# Altium integrated library ICs.IntLib: 239 symbols (part 4 of 4)
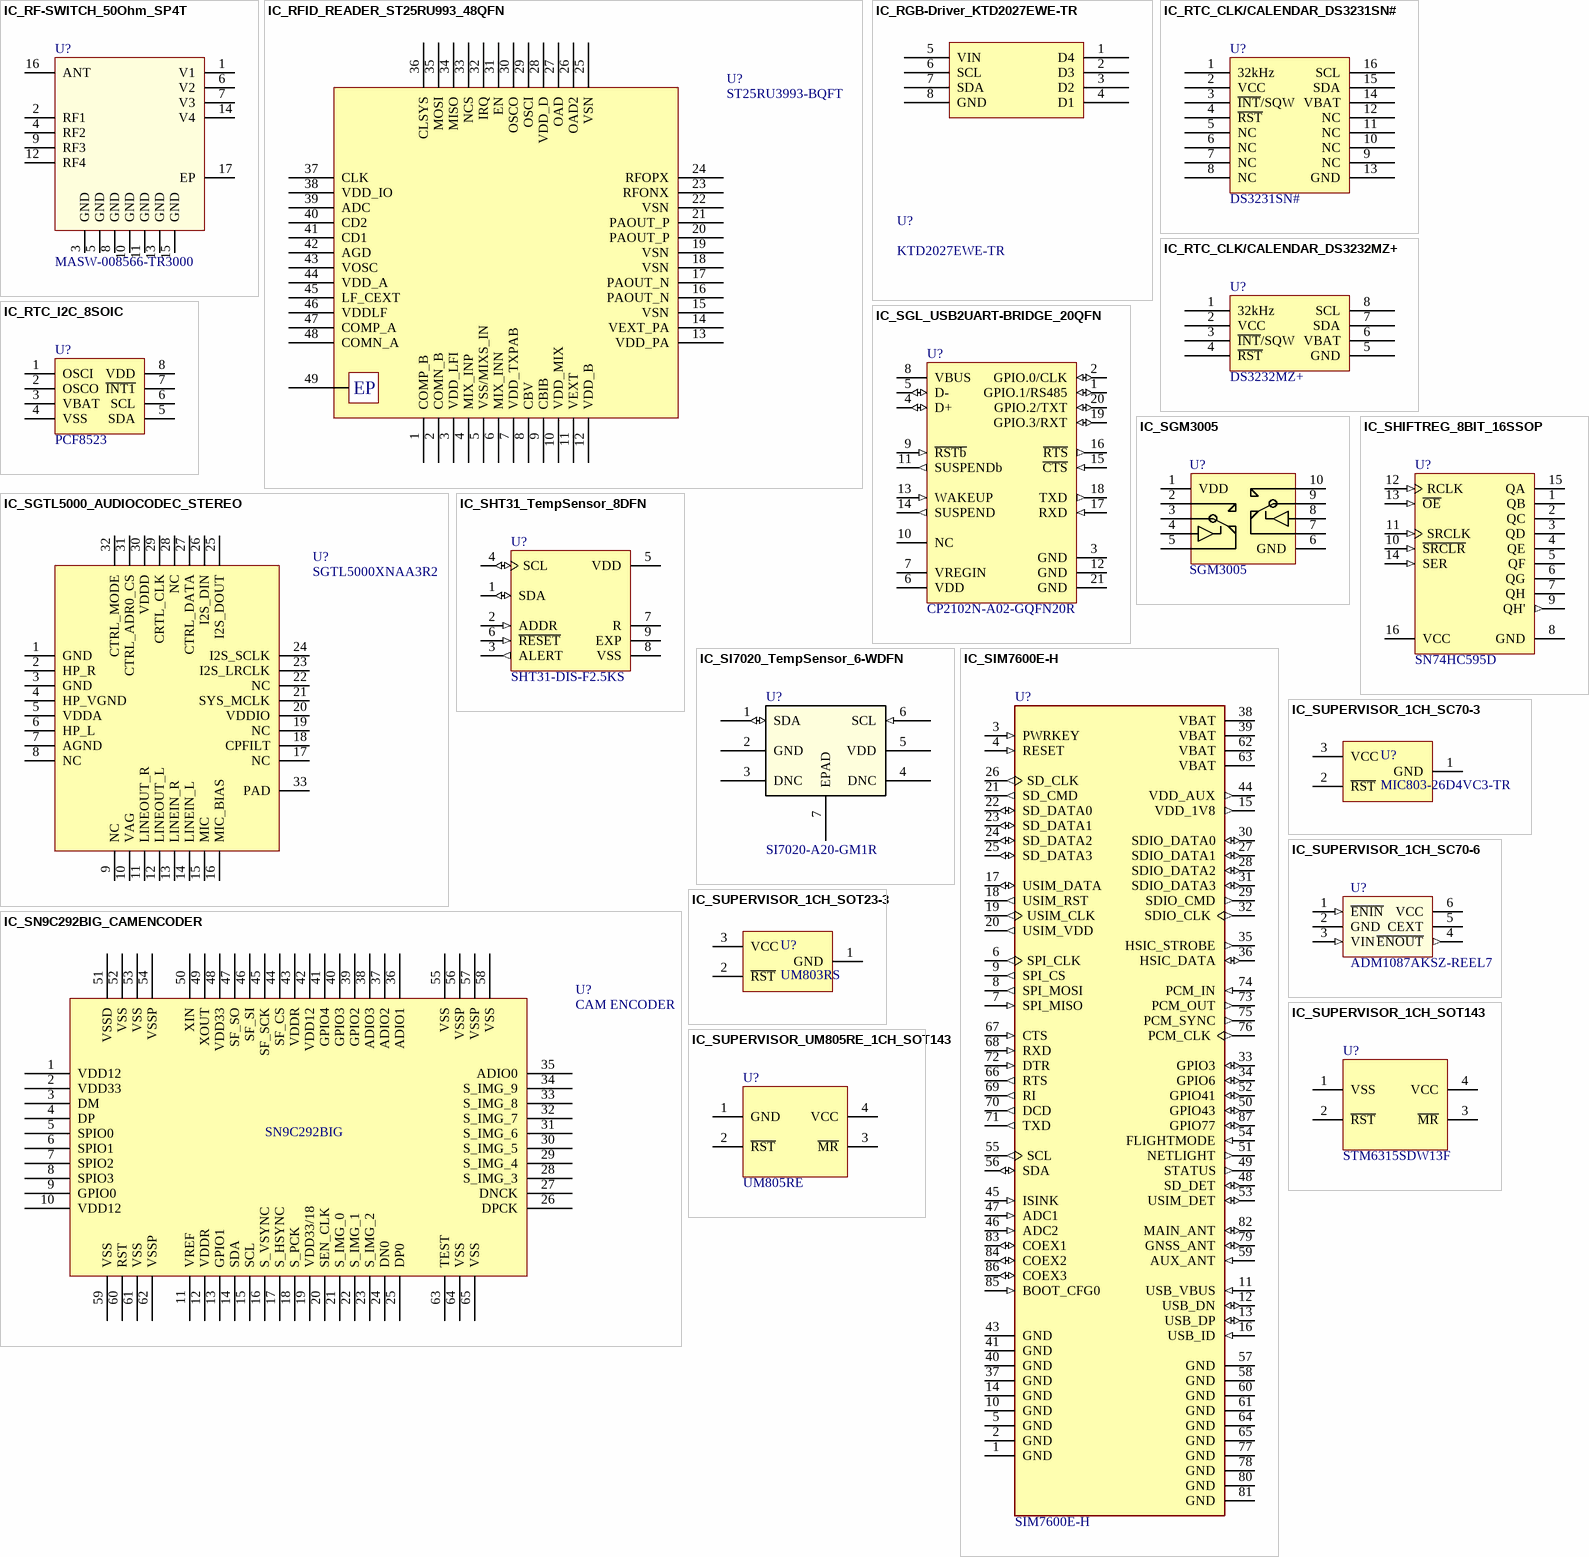
[diagram p12: symbols IC_RF-SWITCH_50Ohm_SP4T to IC_SUPERVISOR_UM805RE_1CH_SOT143]

## IC_RFID_READER_ST25RU993_48QFN
designator U?, comment ST25RU3993-BQFT
IC RFID READER 860-960MHZ 48QFN; Manufacturer: STMicroelectronics; Manufacturer Part Number: ST25RU3993-BQFT; Supplier 1: Digi-Key; Supplier Part Number 1: 497-17140-1-ND; Reel Stock: N/A; Last modified by: J.Jaramillo; Last modified date: 20240310; ComponentLink1Description: Dig-Key; ComponentLink1URL: https://www.digikey.com/en/products/detail/stmicroelectronics/ST25RU3993-BQFT/3821069
footprint VFQFN_48_7X7MM_EP (/20220120/J-E.Pachon)
pins: 1 COMP_B, 2 COMN_B, 3 VDD_LFI, 4 MIX_INP, 5 VSS/MIXS_IN, 6 MIX_INN, 7 VDD_TXPAB, 8 CBV, 9 CBIB, 10 VDD_MIX, 11 VEXT, 12 VDD_B, 13 VDD_PA, 14 VEXT_PA, 15 VSN, 16 PAOUT_N, 17 PAOUT_N, 18 VSN, 19 VSN, 20 PAOUT_P, 21 PAOUT_P, 22 VSN, 23 RFONX, 24 RFOPX, 25 VSN, 26 OAD2, 27 OAD, 28 VDD_D, 29 OSCI, 30 OSCO, 31 EN, 32 IRQ, 33 NCS, 34 MISO, 35 MOSI, 36 CLSYS, 37 CLK, 38 VDD_IO, 39 ADC, 40 CD2, 41 CD1, 42 AGD, 43 VOSC, 44 VDD_A, 45 LF_CEXT, 46 VDDLF, 47 COMP_A, 48 COMN_A, 49 EP

## IC_RGB-Driver_KTD2027EWE-TR
designator U?, comment KTD2027EWE-TR
LED Lighting Drivers 4-Channel RGBW Driver, I2C, 1.5x1.5mm TDFN; Manufacturer: Kinetic Technologies; Manufacturer Part Number: KTD2027EWE-TR; Supplier 1: Mouser; Supplier Part Number 1: 389-KTD2027EWETR; Reel Stock: N/A; Last modified by: J.Jaramillo; Last modified date: 20240310; ComponentLink1Description: Digi-Key; ComponentLink1URL: https://www.mouser.com/ProductDetail/Kinetic-Technologies/KTD2027EWE-TR?qs=lc2O%252BfHJPVba64R2ZzIo3g%3D%3D
footprint UTDFN-8_1.5X1.5MM (/20221215/J-E.Pachon)
pins: 1 D4, 2 D3, 3 D2, 4 D1, 5 VIN, 6 SCL, 7 SDA, 8 GND

## IC_RTC_CLK/CALENDAR_DS3231SN#
designator U?, comment DS3231SN#
IC RTC CLK/CALENDAR I2C 16-SOIC; Manufacturer: Analog Devices Inc./Maxim Integrated; Manufacturer Part Number: DS3231SN#; Supplier 1: Digi-Key; Supplier Part Number 1: DS3231SN#-ND; Reel Stock: N/A; Last modified by: J.Jaramillo; Last modified date: 20240310; ComponentLink1Description: Digi-Key; ComponentLink1URL: https://www.digikey.com/en/products/detail/analog-devices-inc-maxim-integrated/DS3231SN/1197576
footprint SOIC_16_7.9MM (/20220107/J-E.Pachon)
pins: 1 32kHz, 2 VCC, 3 ~{INT}/SQW, 4 ~{RST}, 5 NC, 6 NC, 7 NC, 8 NC, 9 NC, 10 NC, 11 NC, 12 NC, 13 GND, 14 VBAT, 15 SDA, 16 SCL

## IC_RTC_CLK/CALENDAR_DS3232MZ+
designator U?, comment DS3232MZ+
IC RTC CLK/CALENDAR I2C 8-SOIC; Manufacturer: Analog Devices Inc./Maxim Integrated; Manufacturer Part Number: DS3232MZ+; Supplier 1: Digi-Key; Supplier Part Number 1: DS3232MZ+-ND; Reel Stock: N/A; Last modified by: J.Jaramillo; Last modified date: 20240310; ComponentLink1Description: Digi-Key; ComponentLink1URL: https://www.digikey.com/en/products/detail/analog-devices-inc-maxim-integrated/DS3232MZ/3087653
footprint SOIC_8_3.9mm (/ 20190225 / C-A.Serna.A)
pins: 1 32kHz, 2 VCC, 3 ~{INT}/SQW, 4 ~{RST}, 5 GND, 6 VBAT, 7 SDA, 8 SCL

## IC_RTC_I2C_8SOIC
designator U?, comment PCF8523
IC RTC CLK/CALENDAR I2C 8-SOIC; Manufacturer: NXP USA Inc.; Manufacturer Part Number: PCF8523T/1,118; Last modified by: J.Jaramillo; Last modified date: 20240310; ComponentLink1Description: Digikey; ComponentLink1URL: https://www.digikey.com/product-detail/en/nxp-usa-inc/PCF8523T-1118/568-5306-1-ND/2530784; Reel Stock: N/A; Supplier 1: Digi-Key; Supplier Part Number 1: 568-5306-1-ND
footprint SOIC_8_3.9mm (/ 20190225 / C-A.Serna.A)
pins: 1 OSCI (power), 2 OSCO (power), 3 VBAT (power), 4 VSS (power), 5 SDA (power), 6 SCL (power), 7 ~{INT1} (power), 8 VDD (power)

## IC_SGL_USB2UART-BRIDGE_20QFN
designator U?, comment CP2102N-A02-GQFN20R
IC USB TO UART BRIDGE QFN20; Manufacturer: Silicon Labs; Manufacturer Part Number: CP2102N-A02-GQFN20R; Supplier 1: Digi-Key; Supplier Part Number 1: 336-5886-1-ND; Reel Stock: N/A; Last modified by: J.Jaramillo; Last modified date: 20240310; ComponentLink1Description: Digi-Key; ComponentLink1URL: https://www.digikey.com/en/products/detail/silicon-labs/CP2102N-A02-GQFN20R/9863478?s=N4IgTCBcDaIMxwGwFoCsAOdKCMyByAIiALoC%2BQA
footprint WFQFN_20_EP_3X3MM (QFN_20/ 20210809/ C-D Viveros)
pins: 1 GPIO.1/RS485 (io), 2 GPIO.0/CLK (io), 3 GND (power) "Ground", 4 D+ (io) "USB Data Positive", 5 D- (io) "USB Data Negative", 6 VDD (power) "Supply Power Input/5V Regulator Output", 7 VREGIN (power) "5V Regulator Input", 8 VBUS (power) "Digital Input. VBUS Sense Input. This pin should be connected to the VBUS signal of a USBnetwork. A 5 V signal on this pin indicates a USB network connection", 9 ~{RSTb} (in) "Active-low Reset", 10 NC "No Connect (leave this pin floating)", 11 SUSPENDb (out) "Digital Output. This pin is driven low when the device enters the USB suspend state.", 12 GND (power) "Ground", 13 WAKEUP (in) "Digital Input. Remote USB wakeup interrupt input.", 14 SUSPEND (out) "Digital Output. This pin is driven high when the device enters the USB suspend state", 15 ~{CTS} (in) "Digital Input. Clear To Send control input (active low).", 16 ~{RTS} (out) "Digital Output. Ready To Send control output (active low).", 17 RXD (in) "Digital Input. Asynchronous data input (UART Receive).", 18 TXD (out) "Digital Output. Asynchronous data output (UART Transmit)", 19 GPIO.3/RXT (io), 20 GPIO.2/TXT (io), 21 GND (power) "Ground"

## IC_SGM3005
designator U?, comment SGM3005
Analog switch SPDT; Manufacturer: SGMICRO; Manufacturer Part Number: SGM3005; Supplier 1: Poshton; Supplier Part Number 1: SGM3005; Reel Stock: N/A; Last modified by: J.Jaramillo; Last modified date: 20240310; ComponentLink1Description: lcsc
footprint MSOP-10_3.0MM (20210809/V-A.Patino)
pins: 1 VDD, 2 NO1, 3 COM1, 4 IN1, 5 NC1, 6 GND, 7 NC2, 8 IN2, 9 COM2, 10 NO2

## IC_SGTL5000_AUDIOCODEC_STEREO
designator U?, comment SGTL5000XNAA3R2
IC AUDIO CODEC STEREO 32-QFN; Manufacturer: NXP USA Inc.; Manufacturer Part Number: SGTL5000XNAA3R2; Supplier 1: Digi-Key; Supplier Part Number 1: SGTL5000XNAA3R2CT-ND; Reel Stock: N/A; Last modified by: J.Jaramillo; Last modified date: 20240310; ComponentLink1Description: Digi-Key; ComponentLink1URL: https://www.digikey.com/products/en?keywords=SGTL5000XNAA3R2CT-ND
footprint QFN-32_EP_5X5MM (32-VFQFN Exposed Pad/20200714/N-A.Potosi)
pins: 1 GND, 2 HP_R, 3 GND, 4 HP_VGND, 5 VDDA, 6 HP_L, 7 AGND, 8 NC, 9 NC, 10 VAG, 11 LINEOUT_R, 12 LINEOUT_L, 13 LINEIN_R, 14 LINEIN_L, 15 MIC, 16 MIC_BIAS, 17 NC, 18 CPFILT, 19 NC, 20 VDDIO, 21 SYS_MCLK, 22 NC, 23 I2S_LRCLK, 24 I2S_SCLK, 25 I2S_DOUT, 26 I2S_DIN, 27 CTRL_DATA, 28 NC, 29 CRTL_CLK, 30 VDDD, 31 CTRL_ADR0_CS, 32 CTRL_MODE, 33 PAD

## IC_SHIFTREG_8BIT_16SSOP
designator U?, comment SN74HC595D
IC SHIFT REGISTER 8BIT 16-SSOP; Manufacturer: Texas Instruments; Manufacturer Part Number: SN74HC595DBR; Supplier 1: Digi-Key; Supplier Part Number 1: 296-38797-1-ND; Reel Stock: N/A; Last modified by: J.Jaramillo; Last modified date: 20240310; ComponentLink1Description: Digi-Key; ComponentLink1URL: https://www.digikey.com/en/products/detail/texas-instruments/SN74HC595DBR/1571260
footprint SSOP_16_6.2x5.3mm_N (/ 20190911/C-D Viveros)
pins: 1 QB (hiz) "QB Output", 2 QC (hiz) "QC Output", 3 QD (hiz) "QD Output", 4 QE (hiz) "QE Output", 5 QF (hiz) "QF Output", 6 QG (hiz) "QG Output", 7 QH (hiz) "QH Output", 8 GND (power) "Ground Pin", 9 QH' (out) "QH' Output", 10 ~{SRCLR} (in) "S\R\C\L\R\ Input", 11 SRCLK (in) "SRCLK Input", 12 RCLK (in) "RCLK Input", 13 ~{OE} (in) "Output Enable Pin", 14 SER (in) "SER Input", 15 QA (hiz) "QA Output", 16 VCC (power) "Power Pin"

## IC_SHT31_TempSensor_8DFN
designator U?, comment SHT31-DIS-F2.5KS
SENSOR HUMID/TEMP 5V I2C 2% SMD; Manufacturer: Sensirion AG; Manufacturer Part Number: SHT31-DIS-F2.5KS; Supplier 1: Digi-Key; Supplier Part Number 1: 1649-1066-1-ND; Reel Stock: N/A; Last modified by: J.Jaramillo; Last modified date: 20240310; ComponentLink1Description: Digikey; ComponentLink1URL: https://www.digikey.com/en/products/detail/sensirion-ag/SHT31-DIS-F2-5KS/6212134
footprint DFN_8 _2.5X2.5MM (8VFDFN/20201009/N-A.Potosi)
pins: 1 SDA (io), 2 ADDR (in), 3 ALERT (out), 4 SCL (io), 5 VDD (power), 6 ~{RESET} (in), 7 R, 8 VSS (power), 9 EXP

## IC_SI7020_TempSensor_6-WDFN
designator U?, comment SI7020-A20-GM1R
SENS HUMI/TEMP 3.6V I2C 4% 6DFN; Manufacturer: Silicon Labs; Manufacturer Part Number: SI7020-A20-GM1R; Supplier 1: Digi-Key; Supplier Part Number 1: 336-3596-1-ND; Reel Stock: N/A; Last modified by: J.Jaramillo; Last modified date: 20240310; ComponentLink1Description: Digi-Key; ComponentLink1URL: https://www.digikey.com/en/products/detail/silicon-labs/SI7020-A20-GM1R/5048927?s=N4IgTCBcDaIMxwGwFo4FYCcKCMyByAIiALoC%2BQA
footprint DFN6_3x3MM (/20221116/J-A.Sepulveda)
pins: 1 SDA (io), 2 GND (power), 3 DNC, 4 DNC, 5 VDD (power), 6 SCL (in), 7 EPAD

## IC_SIM7600E-H
designator U?, comment SIM7600E-H
LTE CAT4; Manufacturer: SIMCom Wireless Solutions Limited; Manufacturer Part Number: SIM7600E-H; Supplier 1: Digi-Key; Supplier Part Number 1: 3781-SIM7600E-H-ND; Reel Stock: N/A; Last modified by: J.Jaramillo; Last modified date: 20240310; ComponentLink1Description: Digi-Key; ComponentLink1URL: https://www.digikey.com/en/products/detail/simcom-wireless-solutions-limited/SIM7600E-H/15841468; ComponentLink2Description: Datasheet; ComponentLink2URL: https://drive.google.com/drive/folders/1fQhPtR3fgm2465Pxh8OV7G2RsV8r5jyW
footprint 87-SMD_30x30MM (20220111 / E.Naranjo)
footprint 87-SMD_30x30MM_SIM7600E-H (20220318 / J-E.Pachon)
pins: 1 GND (power), 2 GND (power), 3 PWRKEY (in), 4 RESET (in), 5 GND (power), 6 SPI_CLK (out), 7 SPI_MISO (in), 8 SPI_MOSI (out), 9 SPI_CS (out), 10 GND (power), 11 USB_VBUS (in), 12 USB_DN (io), 13 USB_DP (io), 14 GND (power), 15 VDD_1V8 (out), 16 USB_ID (in), 17 USIM_DATA (io), 18 USIM_RST (out), 19 USIM_CLK (out), 20 USIM_VDD (out), 21 SD_CMD (out), 22 SD_DATA0 (io), 23 SD_DATA1 (io), 24 SD_DATA2 (io), 25 SD_DATA3 (io), 26 SD_CLK (out), 27 SDIO_DATA1 (io), 28 SDIO_DATA2 (io), 29 SDIO_CMD (out), 30 SDIO_DATA0 (io), 31 SDIO_DATA3 (io), 32 SDIO_CLK (out), 33 GPIO3 (io), 34 GPIO6 (io), 35 HSIC_STROBE (out), 36 HSIC_DATA (io), 37 GND (power), 38 VBAT (power), 39 VBAT (power), 40 GND (power), 41 GND (power), 43 GND (power), 44 VDD_AUX (out), 45 ISINK (in), 46 ADC2 (in), 47 ADC1 (in), 48 SD_DET (io), 49 STATUS (out), 50 GPIO43 (io), 51 NETLIGHT (out), 52 GPIO41 (io), 53 USIM_DET (io), 54 FLIGHTMODE (in), 55 SCL (out), 56 SDA (io), 57 GND (power), 58 GND (power), 59 AUX_ANT (in), 60 GND (power), 61 GND (power), 62 VBAT (power), 63 VBAT (power), 64 GND (power), 65 GND (power), 66 RTS (out), 67 CTS (in), 68 RXD (in), 69 RI (out), 70 DCD (out), 71 TXD (out), 72 DTR (in), 73 PCM_OUT (out), 74 PCM_IN (in), 75 PCM_SYNC (out), 76 PCM_CLK (out), 77 GND (power), 78 GND (power), 79 GNSS_ANT (io), 80 GND (power), 81 GND (power), 82 MAIN_ANT (io), 83 COEX1 (io), 84 COEX2 (io), 85 BOOT_CFG0 (in), 86 COEX3 (io), 87 GPIO77 (io)

## IC_SN9C292BIG_CAMENCODER
designator U?, comment CAM ENCODER
USB2.0 H.264 Video Encoding Camera Controller; Manufacturer: SONIX; Manufacturer Part Number: SN9C292BIG; Supplier 1: Poshton; Supplier Part Number 1: SN9C292BIG; Reel Stock: N/A; Last modified by: J.Jaramillo; Last modified date: 20240310; ComponentLink1Description: jlcpcb; ComponentLink1URL: https://jlcpcb.com/partdetail/Sonix-SN9C292BIG/C5247174
footprint LGA65_7X5MM (/20210809/N-A.Potosi)
pins: 1 VDD12, 2 VDD33, 3 DM, 4 DP, 5 SPIO0, 6 SPIO1, 7 SPIO2, 8 SPIO3, 9 GPIO0, 10 VDD12, 11 VREF, 12 VDDR, 13 GPIO1, 14 SDA, 15 SCL, 16 S_VSYNC, 17 S_HSYNC, 18 S_PCK, 19 VDD33/18, 20 SEN_CLK, 21 S_IMG_0, 22 S_IMG_1, 23 S_IMG_2, 24 DN0, 25 DP0, 26 DPCK, 27 DNCK, 28 S_IMG_3, 29 S_IMG_4, 30 S_IMG_5, 31 S_IMG_6, 32 S_IMG_7, 33 S_IMG_8, 34 S_IMG_9, 35 ADIO0, 36 ADIO1, 37 ADIO2, 38 ADIO3, 39 GPIO2, 40 GPIO3, 41 GPIO4, 42 VDD12, 43 VDDR, 44 SF_CS, 45 SF_SCK, 46 SF_SI, 47 SF_SO, 48 VDD33, 49 XOUT, 50 XIN, 51 VSSD, 52 VSS, 53 VSS, 54 VSSP, 55 VSS, 56 VSSP, 57 VSSP, 58 VSS, 59 VSS, 60 RST, 61 VSS, 62 VSSP, 63 TEST, 64 VSS, 65 VSS

## IC_SUPERVISOR_1CH_SC70-3
designator U?, comment MIC803-26D4VC3-TR
IC SUPERVISOR 1 CHANNEL SC70-3; Manufacturer: Microchip Technology; Manufacturer Part Number: MIC803-26D4VC3-TR; Supplier 1: Digi-Key; Supplier Part Number 1: 576-3799-1-ND; Reel Stock: N/A; Last modified by: J.Jaramillo; Last modified date: 20240310; ComponentLink1Description: Digi-Key; ComponentLink1URL: https://www.digikey.com/en/products/detail/microchip-technology/MIC803-26D4VC3-TR/2566976?s=N4IgTCBcDaILIEkDCAOADAZgLRgGwBEAWANSQxAF0BfIA
footprint SC_70_3 (SOT-323 / 20230810/ N-A.Potosi)
pins: 1 GND, 2 ~{RST}, 3 VCC

## IC_SUPERVISOR_1CH_SC70-6
designator U?, comment ADM1087AKSZ-REEL7
IC SUPERVISOR 1 CHANNEL SC70-6; Manufacturer: Analog Devices Inc.; Reel Stock: N/A; Last modified by: J.Jaramillo; Last modified date: 20240310; ComponentLink1Description: Digi-Key; ComponentLink1URL: https://www.digikey.com/en/products/detail/analog-devices-inc/ADM1087AKSZ-REEL7/994971; Supplier 1: Digi-Key; Manufacturer Part Number: ADM1087AKSZ-REEL7; Supplier Part Number 1: 505-ADM1087AKSZ-REEL7CT-ND
footprint SOT_ 363 (TSSOP-6, SC-88, SOT-363 / 20190225 / C-A.Serna.A)
pins: 1 ~{ENIN} (in), 2 GND (power), 3 VIN (in), 4 ~{ENOUT} (out), 5 CEXT (power), 6 VCC (power)

## IC_SUPERVISOR_1CH_SOT23-3
designator U?, comment UM803RS
3-Pin uP Reset Circuits with Ope; Manufacturer: Union Semiconductor International Limited; Manufacturer Part Number: UM803RS; Supplier 1: Digi-Key; Supplier Part Number 1: 3351-UM803RSTR-ND; Reel Stock: N/A; Last modified by: J.Jaramillo; Last modified date: 20240310; ComponentLink1Description: Digi-Key; ComponentLink1URL: https://www.digikey.com/en/products/detail/union-semiconductor-international-limited/UM803RS/16731106
footprint SOT_23_3 (/20200728/M-C.CalderonC)
pins: 1 GND, 2 ~{RST}, 3 VCC

## IC_SUPERVISOR_1CH_SOT143
designator U?, comment STM6315SDW13F
IC SUPERVISOR 1 CHANNEL SOT143-4; Manufacturer: STMicroelectronics; Manufacturer Part Number: STM6315SDW13F; Supplier 1: Digi-Key; Supplier Part Number 1: 497-4975-1-ND; Reel Stock: N/A; Last modified by: J.Jaramillo; Last modified date: 20240310; ComponentLink1Description: Digi-Key; ComponentLink1URL: https://www.digikey.com/en/products/detail/stmicroelectronics/STM6315SDW13F/1003395?s=N4IgTCBcDaICwE4DsBaRSCsKCMKByAIiALoC%2BQA
footprint SOT_143-4 (TO-253-4, TO-253AA/ 20220517/ N-A.Potosi)
pins: 1 VSS, 2 ~{RST}, 3 ~{MR}, 4 VCC

## IC_SUPERVISOR_UM805RE_1CH_SOT143
designator U?, comment UM805RE
Open Drain Output uP Reset with; Manufacturer: Union Semiconductor; Manufacturer Part Number: UM805RE; Supplier 1: LCSC; Supplier Part Number 1: C620010; Reel Stock: N/A; Last modified by: J.Jaramillo; Last modified date: 20240310; ComponentLink1Description: LCSC; ComponentLink1URL: https://www.lcsc.com/product-detail/Monitors-Reset-Circuits_Union-Semiconductor-UM805RE_C620010.html?utm_source=octopart&utm_medium=cpc&utm_campaign=UM805RE
footprint SOT_143-4 (TO-253-4, TO-253AA/ 20220517/ N-A.Potosi)
pins: 1 GND, 2 ~{RST}, 3 ~{MR}, 4 VCC

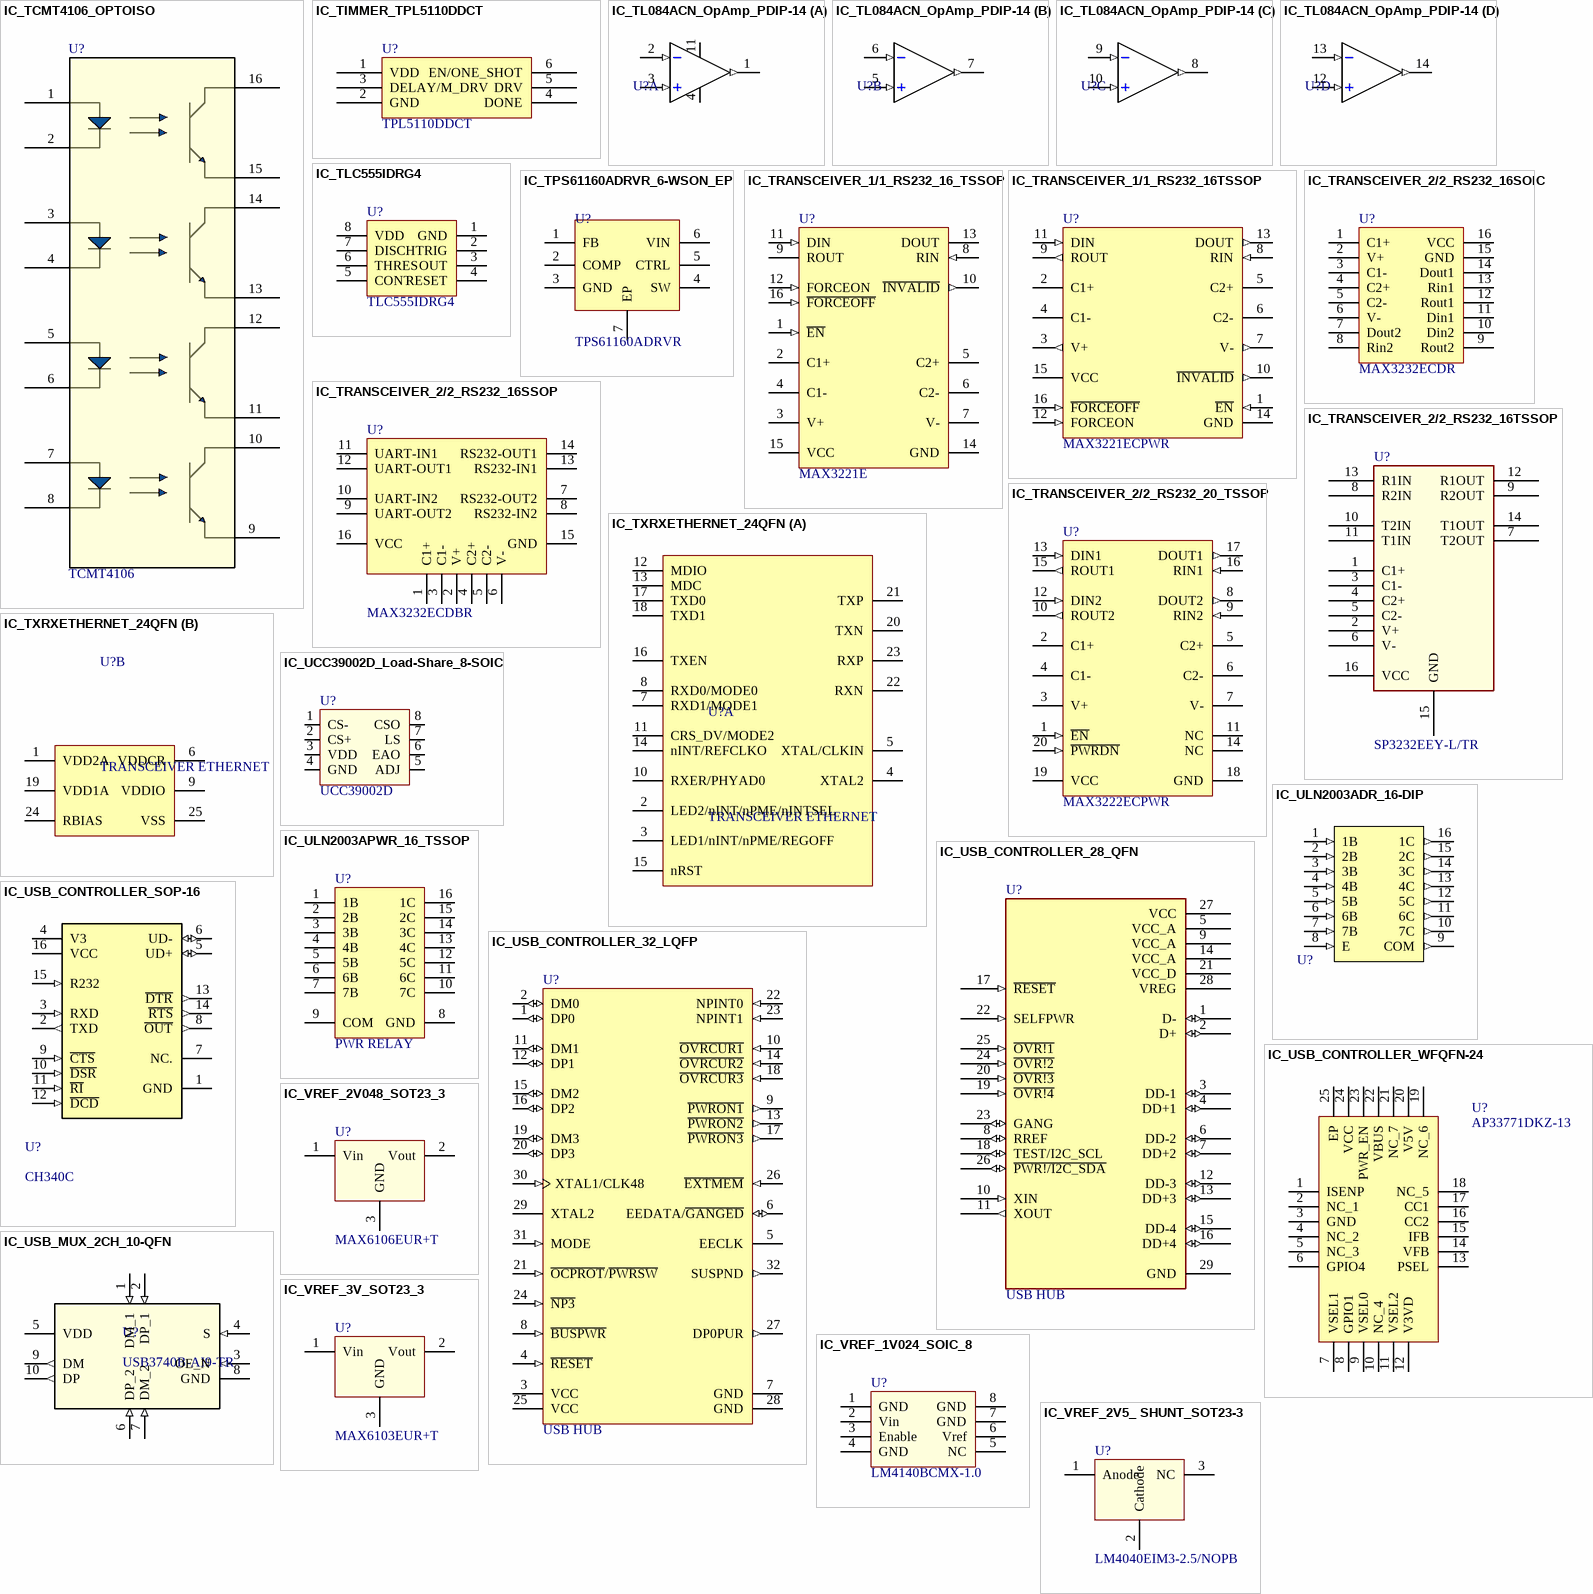
[diagram p8: symbols IC_TCMT4106_OPTOISO to IC_VREF_3V_SOT23_3]

## IC_TCMT4106_OPTOISO
designator U?, comment TCMT4106
OPTOISO 3.75KV 4CH TRANS 16SOP; Manufacturer: Vishay Semiconductor Opto Division; Manufacturer Part Number: TCMT4106; Supplier 1: Digi-Key; Supplier Part Number 1: TCMT4106CT-ND; Reel Stock: N/A; Last modified by: J.Jaramillo; Last modified date: 20240310; ComponentLink1Description: Digi-Key; ComponentLink1URL: https://www.digikey.com/en/products/detail/vishay-semiconductor-opto-division/TCMT4106/4074844
footprint SOP_16_4.40MM (/20220606/F-A.Ospina)
pins: 1, 2, 3, 4, 5, 6, 7, 8, 9, 10, 11, 12, 13, 14, 15, 16

## IC_TIMMER_TPL5110DDCT
designator U?, comment TPL5110DDCT
IC OSC PROG TIMER TSOT23-6; Manufacturer: Texas Instruments; Manufacturer Part Number: TPL5110DDCT; Supplier 1: Digi-Key; Supplier Part Number 1: 296-38830-1-ND; Reel Stock: N/A; Last modified by: J.Jaramillo; Last modified date: 20240310; ComponentLink1Description: Digi-Key; ComponentLink1URL: https://www.digikey.com/en/products/detail/texas-instruments/TPL5110DDCT/5130143?s=N4IgTCBcDaICoAUAyBWAjGgDAEWwYThAF0BfIA
footprint SOT_23_6 (/ 20190225 / C-A.Serna.A)
pins: 1 VDD, 2 GND, 3 DELAY/M_DRV, 4 DONE, 5 DRV, 6 EN/ONE_SHOT

## IC_TL084ACN_OpAmp_PDIP-14
designator U?, comment TL084ACN  (value not drawn)
IC OPAMP JFET 4 CIRCUIT 14DIP; Manufacturer: Texas Instruments; Manufacturer Part Number: TL084ACN; Supplier 1: Digi-Key; Supplier Part Number 1: 296-1782-5-ND; Reel Stock: N/A; Last modified by: J.Jaramillo; Last modified date: 20240310; ComponentLink1Description: Digi-Key; ComponentLink1URL: https://www.digikey.es/en/products/detail/texas-instruments/TL084ACN/277427; ComponentLink2Description: Datasheet; ComponentLink2URL: https://www.ti.com/general/docs/suppproductinfo.tsp?distId=10&gotoUrl=http%3A%2F%2Fwww.ti.com%2Flit%2Fgpn%2Ftl084
footprint DIP14-2.54mm (/20231007/ J.Jaramillo)
part A pins: 1 OUT1 (out), 2 IVN1 (in), 3 NOINV1 (in), 4 VCC, 11 -VCC
part B pins: 5 NOINV2 (in), 6 IVN2 (in), 7 OUT2 (out)
part C pins: 8 OUT3 (out), 9 IVN3 (in), 10 NOINV3 (in)
part D pins: 12 NOINV3 (in), 13 IVN4 (in), 14 OUT4 (out)

## IC_TLC555IDRG4
designator U?, comment TLC555IDRG4
IC OSC SGL TIMER 2.1MHZ 8-SOIC; Manufacturer: Texas Instruments; Manufacturer Part Number: TLC555IDRG4; Supplier 1: Digikey; Supplier Part Number 1: 296-52779-1-ND; Reel Stock: N/A; Last modified by: J.Jaramillo; Last modified date: 20240310; ComponentLink1Description: Digikey; ComponentLink1URL: https://www.digikey.com/en/products/detail/texas-instruments/TLC555IDRG4/1676500
footprint SOIC_8_3.9mm (/ 20190225 / C-A.Serna.A)
pins: 1 GND (power), 2 TRIG (power), 3 OUT (power), 4 RESET (power), 5 CONT (power), 6 THRES (power), 7 DISCH (power), 8 VDD (power)

## IC_TPS61160ADRVR_6-WSON_EP
designator U?, comment TPS61160ADRVR
IC LED DRVR RGLTR DIM 700MA 6SON; Manufacturer: Texas Instruments; Manufacturer Part Number: TPS61160ADRVR; Supplier 1: Digi-Key; Supplier Part Number 1: 296-24308-1-ND; Reel Stock: N/A; Last modified by: J.Jaramillo; Last modified date: 20240310; ComponentLink1Description: Digi-key; ComponentLink1URL: https://www.digikey.com/products/en?keywords=296-24308-1-ND
footprint WSON_6_2x2MM_EP (WDFN-6 , SON-6 / 20200720 / C-D Viveros)
pins: 1 FB, 2 COMP, 3 GND, 4 SW, 5 CTRL, 6 VIN, 7 EP

## IC_TRANSCEIVER_1/1_RS232_16_TSSOP
designator U?, comment MAX3221E
IC TRANSCEIVER FULL 1/1 16TSSOP; Manufacturer: Texas Instruments; Manufacturer Part Number: MAX3221EIPWR; Supplier 1: Digi-Key; Supplier Part Number 1: 296-19383-1-ND; Reel Stock: N/A; Last modified by: J.Jaramillo; Last modified date: 20240310; ComponentLink1Description: Digi-Key; ComponentLink1URL: https://www.digikey.com/products/en?keywords=296-19383-1-ND
footprint TSSOP_16_4.40MM (/ 20190923 / C-D Viveros)
pins: 1 ~{EN} (in), 2 C1+, 3 V+ (power), 4 C1-, 5 C2+, 6 C2-, 7 V- (power), 8 RIN (in), 9 ROUT (hiz), 10 ~{INVALID} (out), 11 DIN (in), 12 FORCEON (in), 13 DOUT (hiz), 14 GND (power), 15 VCC (power), 16 ~{FORCEOFF} (in)

## IC_TRANSCEIVER_1/1_RS232_16TSSOP
designator U?, comment MAX3221ECPWR
IC TRANSCEIVER FULL 1/1 16TSSOP; Manufacturer: Texas Instruments; Manufacturer Part Number: MAX3221ECPWR; Supplier 1: Digi-Key; Supplier Part Number 1: 296-19825-1-ND; Reel Stock: N/A; Last modified by: J.Jaramillo; Last modified date: 20240310; ComponentLink1Description: Digi-Key; ComponentLink1URL: https://www.digikey.com/en/products/detail/texas-instruments/MAX3221ECPWR/1120518
footprint TSSOP_16_4.40MM (/ 20190923 / C-D Viveros)
pins: 1 ~{EN} (in), 2 C1+, 3 V+ (out), 4 C1-, 5 C2+, 6 C2-, 7 V- (out), 8 RIN (in), 9 ROUT (out), 10 ~{INVALID} (out), 11 DIN (in), 12 FORCEON (in), 13 DOUT (out), 14 GND (power), 15 VCC (power), 16 ~{FORCEOFF} (in)

## IC_TRANSCEIVER_2/2_RS232_16SOIC
designator U?, comment MAX3232ECDR
IC TRANSCEIVER FULL 2/2 16SOIC; Manufacturer: Texas Instruments; Supplier 1: Digi-key; Supplier Part Number 1: 296-19851-1-ND; Reel Stock: N/A; Last modified by: J.Jaramillo; Last modified date: 20240310; ComponentLink1Description: Digi-key; ComponentLink1URL: https://www.digikey.com/en/products/detail/texas-instruments/MAX3232ECDR/1120543?s=N4IgTCBcDaILIEEAaBmMaCiBhAIgJRAF0BfIA; Manufacturer Part Number: MAX3232ECDR
footprint SOIC_16_3.9MM (/20201210/M-C.Calderon)
pins: 1 C1+ (power), 2 V+ (power), 3 C1- (power), 4 C2+ (power), 5 C2- (power), 6 V- (power), 7 Dout2 (power), 8 Rin2 (power), 9 Rout2 (power), 10 Din2 (power), 11 Din1 (power), 12 Rout1 (power), 13 Rin1 (power), 14 Dout1 (power), 15 GND, 16 VCC

## IC_TRANSCEIVER_2/2_RS232_16SSOP
designator U?, comment MAX3232ECDBR
IC TRANSCEIVER FULL 2/2 16SSOP; Manufacturer: Texas InstrumentsTexas Instruments; Manufacturer Part Number: MAX3232ECDBR; Supplier 1: Digi-Key; Supplier Part Number 1: 296-19850-1-ND; Reel Stock: N/A; Last modified by: J.Jaramillo; Last modified date: 20240310; ComponentLink1Description: Digi-Key; ComponentLink1URL: https://www.digikey.com/products/en?keywords=296-19850-1-ND
footprint SSOP_16_6.2x5.3mm_N (/ 20190911/C-D Viveros)
pins: 1 C1+, 2 V+, 3 C1-, 4 C2+, 5 C2-, 6 V-, 7 RS232-OUT2, 8 RS232-IN2, 9 UART-OUT2, 10 UART-IN2, 11 UART-IN1, 12 UART-OUT1, 13 RS232-IN1, 14 RS232-OUT1, 15 GND, 16 VCC

## IC_TRANSCEIVER_2/2_RS232_16TSSOP
designator U?, comment SP3232EEY-L/TR
IC TRANSCEIVER FULL 2/2 16TSSOP; Manufacturer: SIPEX; Manufacturer Part Number: SP3232EEY-L/TR; Supplier 1: Digi-Key; Supplier Part Number 1: 1016-1808-1-ND; Reel Stock: N/A; Last modified by: J.Jaramillo; Last modified date: 20240310; ComponentLink1Description: Digi-Key; ComponentLink1URL: https://www.digikey.com/en/products/detail/maxlinear-inc/SP3232EEY-L-TR/2471822?s=N4IgTCBcDaIMoAUDMYUFE0E0C0AZA9ACoBKIAugL5A
footprint TSSOP_16_4.40MM (/ 20190923 / C-D Viveros)
pins: 1 C1+, 2 V+, 3 C1-, 4 C2+, 5 C2-, 6 V-, 7 T2OUT, 8 R2IN, 9 R2OUT, 10 T2IN, 11 T1IN, 12 R1OUT, 13 R1IN, 14 T1OUT, 15 GND (power), 16 VCC (power)

## IC_TRANSCEIVER_2/2_RS232_20_TSSOP
designator U?, comment MAX3222ECPWR
IC TRANSCEIVER FULL 2/2 20TSSOP; Manufacturer: Texas Instruments; Manufacturer Part Number: MAX3222ECPWR; Supplier 1: Digi-Key; Supplier Part Number 1: 296-19820-1-ND; Reel Stock: N/A; Last modified by: J.Jaramillo; Last modified date: 20240310; ComponentLink1Description: Digi-Key; ComponentLink1URL: https://www.digikey.com/product-detail/en/texas-instruments/MAX3222ECPWR/296-19820-1-ND/1120561
footprint TSSOP_20_4.40MM (20210806/J-E.Pachon)
pins: 1 ~{EN} (in), 2 C1+, 3 V+ (power), 4 C1-, 5 C2+, 6 C2-, 7 V- (power), 8 DOUT2 (out), 9 RIN2 (in), 10 ROUT2 (out), 11 NC, 12 DIN2 (in), 13 DIN1 (in), 14 NC, 15 ROUT1 (out), 16 RIN1 (in), 17 DOUT1 (out), 18 GND (power), 19 VCC (power), 20 ~{PWRDN} (in)

## IC_TXRXETHERNET_24QFN
designator U?, comment TRANSCEIVER ETHERNET
IC TXRX ETHERNET 100MBPS 24QFN; Manufacturer: Microchip Technology; Manufacturer Part Number: LAN8742A-CZ-TR; Supplier 1: Digi-Key; Supplier Part Number 1: LAN8742A-CZ-CT-ND; Reel Stock: N/A; Last modified by: J.Jaramillo; Last modified date: 20240310; ComponentLink1Description: Digi-Key; ComponentLink1URL: https://www.digikey.com/product-detail/en/microchip-technology/LAN8742A-CZ-TR/LAN8742A-CZ-CT-ND/8256089?cur=USD&lang=en
footprint SQFN_24_4x4mm (24-VFQFN Exposed Pad / 20190225 / C-A.Serna.A)
part A pins: 2 LED2/nINT/nPME/nINTSEL , 3 LED1/nINT/nPME/REGOFF , 4 XTAL2, 5 XTAL/CLKIN, 7 RXD1/MODE1, 8 RXD0/MODE0, 10 RXER/PHYAD0, 11 CRS_DV/MODE2, 12 MDIO, 13 MDC, 14 nINT/REFCLKO, 15 nRST, 16 TXEN, 17 TXD0, 18 TXD1, 20 TXN, 21 TXP (oc), 22 RXN, 23 RXP
part B pins: 1 VDD2A, 6 VDDCR, 9 VDDIO, 19 VDD1A, 24 RBIAS, 25 VSS

## IC_UCC39002D_Load-Share_8-SOIC
designator U?, comment UCC39002D
UCC39002 ADVANCED 8 PIN LOADSHAR; Manufacturer: Unitrode; Manufacturer Part Number: UCC39002D; Supplier 1: Digi-Key; Supplier Part Number 1: 2156-UCC39002D-ND; Reel Stock: N/A; Last modified by: J.Jaramillo; Last modified date: 20240310; ComponentLink1Description: Digi-Key; ComponentLink1URL: https://www.digikey.com/en/products/detail/rochester-electronics-llc/UCC39002D/13522807
footprint SOIC_8_3.9mm (/ 20190225 / C-A.Serna.A)
footprint SOIC_8_3.9mm_L (/ 20190702 / J-P.Vargas.A)
pins: 1 CS-, 2 CS+, 3 VDD, 4 GND, 5 ADJ, 6 EAO, 7 LS, 8 CSO

## IC_ULN2003ADR_16-DIP
designator U?, comment ULN2003ADR  (value not drawn)
IC PWR RELAY 7NPN 1:1 16SOIC; Manufacturer: Texas Instruments; Manufacturer Part Number: ULN2003ADR; Supplier 1: Digi-Key; Supplier Part Number 1: 296-1368-1-ND; Reel Stock: N/A; Last modified by: J.Jaramillo; ComponentLink1Description: Digi-Key; ComponentLink1URL: https://www.digikey.com/es/products/detail/texas-instruments/ULN2003ADR/277011
footprint SOIC_16_3.9MM (/20201210/M-C.Calderon)
footprint DIP16-2.54mm (/20240331/ J.Jaramillo)
pins: 1 1B (in), 2 2B (in), 3 3B (in), 4 4B (in), 5 5B (in), 6 6B (in), 7 7B (in), 8 E (in), 9 COM (out), 10 7C (out), 11 6C (out), 12 5C (out), 13 4C (out), 14 3C (out), 15 2C (out), 16 1C (out)

## IC_ULN2003APWR_16_TSSOP
designator U?, comment PWR RELAY
IC PWR RELAY 7NPN 1:1 16TSSOP; Manufacturer: Texas Instruments; Manufacturer Part Number: ULN2003APWR; Supplier 1: Digi-Key; Supplier Part Number 1: 296-27173-1-ND; Reel Stock: N/A; Last modified by: J.Jaramillo; Last modified date: 20240310; ComponentLink1Description: Digi-Key; ComponentLink1URL: https://www.digikey.com/product-detail/en/texas-instruments/ULN2003APWR/296-27173-1-ND/2255408
footprint TSSOP_16_4.40MM (/ 20190923 / C-D Viveros)
pins: 1 1B, 2 2B, 3 3B, 4 4B, 5 5B, 6 6B, 7 7B, 8 GND, 9 COM, 10 7C, 11 6C, 12 5C, 13 4C, 14 3C, 15 2C, 16 1C

## IC_USB_CONTROLLER_28_QFN
designator U?, comment USB HUB
IC CONTROLLER USB 28QFN; Manufacturer: Cypress Semiconductor Corp; Manufacturer Part Number: CY7C65632-28LTXCT; Supplier 1: Digi-Key; Supplier Part Number 1: 428-3156-1-ND; Reel Stock: N/A; Last modified by: J.Jaramillo; Last modified date: 20240310; ComponentLink1Description: Digi-Key; ComponentLink1URL: https://www.digikey.com/en/products/detail/cypress-semiconductor-corp/CY7C65632-28LTXCT/3131104?s=N4IgTCBcDaIMIE0DscBsBWVBmMBaMAHADIAqAGnCSALoC%2BQA
footprint QFN-28_EP_5X5MM (20210806/M-C.Calderon)
pins: 1 D- (io), 2 D+ (io), 3 DD-1 (io), 4 DD+1 (io), 5 VCC_A (power), 6 DD-2 (io), 7 DD+2 (io), 8 RREF (io), 9 VCC_A (power), 10 XIN (in), 11 XOUT (out), 12 DD-3 (io), 13 DD+3 (io), 14 VCC_A (power), 15 DD-4 (io), 16 DD+4 (io), 17 ~{RESET} (in), 18 TEST/I2C_SCL (io), 19 ~{OVR!4} (in), 20 ~{OVR!3} (in), 21 VCC_D (power), 22 SELFPWR (in), 23 GANG (io), 24 ~{OVR!2} (in), 25 ~{OVR!1} (in), 26 ~{PWR!/I2C_SDA} (io), 27 VCC (power), 28 VREG (power), 29 GND (power)

## IC_USB_CONTROLLER_32_LQFP
designator U?, comment USB HUB
IC HUB CONTROLLER USB 2.0 32LQFP; Manufacturer: Texas Instruments; Manufacturer Part Number: TUSB2036VFR; Supplier 1: Digi-Key; Supplier Part Number 1: 296-27129-1-ND; Reel Stock: N/A; Last modified by: J.Jaramillo; Last modified date: 20240310; ComponentLink1Description: Digi-Key; ComponentLink1URL: https://www.digikey.com/en/products/detail/texas-instruments/TUSB2036VFR/1910069
footprint LQFP-32_7X7MM (/20220810/A-F. Romo)
pins: 1 DP0 (io) "Root port USB differential data plus. DP0 paired with DM0 constitutes the upstream USB port.", 2 DM0 (io) "Root port USB differential data minus. DM0 paired with DP0 constitutes the upstream USB port.", 3 VCC (power) "3.3-V supply voltage", 4 ~{RESET} (in) "R\E\S\E\T\ is an active low TTL input with hysteresis and must be asserted at power up. When R\E\S\E\T\ is asserted, all logic is initialized. Generally, a reset with a pulse width between 100 us and 1 ms is recommended (See Datasheet)", 5 EECLK (hiz) "EEPROM serial clock. When EXTMEM is high, the EEPROM interface is disabled. The EECLK terminal is disabled and must be left floating (unconnected). When EXTMEM is low, EECLK acts as a 3-state serial clock output to the (See Datasheet)", 6 EEDATA/~{GANGED} (io) "EEPROM serial data/power-management mode indicator. When E\X\T\M\E\M\ is high, EEDATA/G\A\N\G\E\D\ selects between ganged or per-port power overcurrent detection for the downstream ports. When E\X\T\M\E\M\ is (See Datasheet)", 7 GND (power) "GND terminals must be tied to ground for proper operation", 8 ~{BUSPWR} (in) "Power source indicator. B\U\S\P\W\R\ is an active-low input that indicates whether the downstream ports source their power from the USB cable or a local power supply. For the bus-power mode, this terminal must be pulled low, (See Datasheet)", 9 ~{PWRON1} (out) "Power-on/-off control signals. P\W\R\O\N\1\-P\W\R\O\N\3\ are active low, push-pull outputs that enables the external power switch device. Push-pull outputs eliminate the pullup resistors which open-drain outputs require. (See Datasheet)", 10 ~{OVRCUR1} (in) "Overcurrent input. O\V\R\C\U\R\1\ - O\V\R\C\U\R\3\ are active low. For per-port overcurrent detection, one overcurrent input is available for each of the three downstream ports. In the ganged mode, any O\V\R\C\U\R\ input may (See Datasheet)", 11 DM1 (io) "USB differential data minus. DM1-DM3 paired with DP1-DP3 support up to four downstream USB ports.", 12 DP1 (io) "USB differential data plus. DP1-DP3 paired with DM1-DM3 support up to four downstream USB ports.", 13 ~{PWRON2} (out) "Power-on/-off control signals. P\W\R\O\N\1\-P\W\R\O\N\3\ are active low, push-pull outputs that enables the external power switch device. Push-pull outputs eliminate the pullup resistors which open-drain outputs require. (See Datasheet)", 14 ~{OVRCUR2} (in) "Overcurrent input. O\V\R\C\U\R\1\ - O\V\R\C\U\R\3\ are active low. For per-port overcurrent detection, one overcurrent input is available for each of the three downstream ports. In the ganged mode, any O\V\R\C\U\R\ input may (See Datasheet)", 15 DM2 (io) "USB differential data minus. DM1-DM3 paired with DP1-DP3 support up to four downstream USB ports.", 16 DP2 (io) "USB differential data plus. DP1-DP3 paired with DM1-DM3 support up to four downstream USB ports.", 17 ~{PWRON3} (out) "Power-on/-off control signals. P\W\R\O\N\1\-P\W\R\O\N\3\ are active low, push-pull outputs that enables the external power switch device. Push-pull outputs eliminate the pullup resistors which open-drain outputs require. (See Datasheet)", 18 ~{OVRCUR3} (in) "Overcurrent input. O\V\R\C\U\R\1\ - O\V\R\C\U\R\3\ are active low. For per-port overcurrent detection, one overcurrent input is available for each of the three downstream ports. In the ganged mode, any O\V\R\C\U\R\ input may (See Datasheet)", 19 DM3 (io) "USB differential data minus. DM1-DM3 paired with DP1-DP3 support up to four downstream USB ports.", 20 DP3 (io) "USB differential data plus. DP1-DP3 paired with DM1-DM3 support up to four downstream USB ports.", 21 ~{OCPROT}/~{PWRSW} (in) "Overcurrent Protection for bus-powered hub (active low). /Power Switching for self-powered hub (active low). The terminal has a different meaning for the bus or self-powered hub. If the terminal is logic high the internal (See Datasheet)", 22 NPINT0 (in) "Number of ports internal to hub system, which are permanently attached (see Table 1).", 23 NPINT1 (in) "Number of ports internal to hub system, which are permanently attached (see Table 1).", 24 ~{NP3} (in) "Number of ports is 3. Active low input. A logic 0 configures the system to use 3 ports. A logic 1 configures the system to use 2 ports.", 25 VCC (power) "3.3-V supply voltage", 26 ~{EXTMEM} (in) "When E\X\T\M\E\M\ is high, the serial EEPROM interface of the device is disabled. When E\X\T\M\E\M\ is low, terminals 5 and 6 are configured as the clock and data terminals of the serial EEPROM interface, respectively.", 27 DP0PUR (out) "Pullup resistor connection. When a system reset happens (R\E\S\E\T\ being driven to low, but not USB reset) or any logic level change on B\U\S\P\W\R\ terminal, DP0PUR output is inactive (floating) until the internal counter (See Datasheet)", 28 GND (power) "GND terminals must be tied to ground for proper operation.", 29 XTAL2 "Crystal 2. XTAL2 is a 6-MHz crystal output. This terminal must be left open when using an oscillator", 30 XTAL1/CLK48 (in) "Crystal 1/48-MHz clock input. When MODE is low, XTAL1/CLK48 is a 6-MHz crystal input with 50% duty cycle. An internal APLL generates the 48-MHz and 12-MHz clocks used internally by the ASIC logic. When MODE is (See Datasheet)", 31 MODE (in) "Mode select. When MODE is low, the APLL output clock is selected as the clock source to drive the internal core of the device and 6-MHz crystal or oscillator can be used. When MODE is high, the clock on XTAL1/CLK48 is (See Datasheet)", 32 SUSPND (out) "Suspend status. SUSPND is an active high output available for external logic power-down operations. During the suspend mode, SUSPND is high. SUSPND is low for normal operation."

## IC_USB_CONTROLLER_SOP-16
designator U?, comment CH340C
2Mbps Transceiver USB 2.0 SOP-16 USB ICs ROHS; Manufacturer: WCH(Jiangsu Qin Heng); Manufacturer Part Number: CH340C; Supplier 1: LCSC; Supplier Part Number 1: C84681; Reel Stock: N/A; Last modified by: J.Jaramillo; Last modified date: 20240315; ComponentLink1Description: LCSC; ComponentLink1URL: https://www.lcsc.com/product-detail/USB-ICs_WCH-Jiangsu-Qin-Heng-CH340C_C84681.html
footprint SOP-16_3.9X10MM (/ 20240315 / J.Jaramillo)
pins: 1 GND (power), 2 TXD (out), 3 RXD (in), 4 V3 (power), 5 UD+ (io), 6 UD- (io), 7 NC., 8 ~{OUT} (out), 9 ~{CTS} (in), 10 ~{DSR} (in), 11 ~{RI} (in), 12 ~{DCD} (in), 13 ~{DTR} (out), 14 ~{RTS} (out), 15 R232 (in), 16 VCC (power)

## IC_USB_CONTROLLER_WFQFN-24
designator U?, comment AP33771DKZ-13
ACDC DECODER W-QFN4040-24 T&R 3K; Manufacturer: Diodes Incorporated; Manufacturer Part Number: AP33771DKZ-13; Supplier 1: Digi-Key; Supplier Part Number 1: 31-AP33771DKZ-13CT-ND; Reel Stock: N/A; Last modified by: J.Jaramillo; Last modified date: 20240310; ComponentLink1Description: Digi-Key; ComponentLink1URL: https://www.digikey.com/en/products/detail/diodes-incorporated/AP33771DKZ-13/15995287?s=N4IgTCBcDaIIIAUDMSDsqCMARA0gLQFoMkQBdAXyA
footprint WFQFN-24_4X4MM (20220518 / E.Naranjo)
pins: 1 ISENP, 2 NC_1, 3 GND, 4 NC_2, 5 NC_3, 6 GPIO4, 7 VSEL1, 8 GPIO1, 9 VSEL0, 10 NC_4, 11 VSEL2, 12 V3VD, 13 PSEL, 14 VFB, 15 IFB, 16 CC2, 17 CC1, 18 NC_5, 19 NC_6, 20 V5V, 21 NC_7, 22 VBUS, 23 PWR_EN, 24 VCC, 25 EP

## IC_USB_MUX_2CH_10-QFN
designator U?, comment USB3740B-AI9-TR
IC CONTROLLER USB 10QFN; Manufacturer: Microchip Technology; Manufacturer Part Number: USB3740B-AI9-TR; Supplier 1: Digi-Key; Supplier Part Number 1: USB3740B-AI9-TRCT-ND; Reel Stock: N/A; Last modified by: J.Jaramillo; Last modified date: 20240310; ComponentLink1Description: Digi-Key; ComponentLink1URL: https://www.digikey.com/en/products/detail/microchip-technology/USB3740B-AI9-TR/3873206?s=N4IgTCBcDaIKoGUBCBmA7AFgAxILQEEBJATlwBUAlEAXQF8g
footprint 10-QFN (/20230802/J-A.Sepulveda)
pins: 1 DM_1 (in), 2 DP_1 (in), 3 OE_N (in), 4 S (in), 5 VDD (power), 6 DP_2 (in), 7 DM_2 (in), 8 GND (power), 9 DM (out), 10 DP (out)

## IC_VREF_1V024_SOIC_8
designator U?, comment LM4140BCMX-1.0
IC VREF SERIES 0.1% 8SOIC; Manufacturer: Texas Instruments; Supplier 1: Digi-key; Supplier Part Number 1: LM4140BCMX-1.0-ND; Reel Stock: N/A; Last modified by: J.Jaramillo; Last modified date: 20240310; ComponentLink1Description: Digi-key; ComponentLink1URL: https://www.digikey.com/en/products/detail/texas-instruments/LM4140BCMX-1-0/3696796; Manufacturer Part Number: LM4140BCMX-1.0
footprint SOIC_8_3.9mm (/ 20190225 / C-A.Serna.A)
pins: 1 GND, 2 Vin, 3 Enable, 4 GND, 5 NC, 6 Vref, 7 GND, 8 GND

## IC_VREF_2V5_ SHUNT_SOT23-3
designator U?, comment LM4040EIM3-2.5/NOPB
IC VREF SHUNT 2% SOT23-3; Manufacturer: Texas Instruments; Manufacturer Part Number: LM4040EIM3-2.5/NOPB; Supplier 1: Digi-key; Supplier Part Number 1: LM4040EIM3-2.5/NOPBCT-ND; Reel Stock: N/A; Last modified by: J.Jaramillo; Last modified date: 20240310; ComponentLink1Description: Digi-key; ComponentLink1URL: https://www.digikey.com/en/products/detail/texas-instruments/LM4040EIM3-2-5-NOPB/305142
footprint SOT_23_3 (/20200728/M-C.CalderonC)
pins: 1 Anode, 2 Cathode, 3 NC

## IC_VREF_2V048_SOT23_3
designator U?, comment MAX6106EUR+T
IC VREF SERIES 0.4% SOT23-3; Manufacturer: Maxim Integrated; Manufacturer Part Number: MAX6106EUR+T; Supplier 1: Digi-key; Supplier Part Number 1: MAX6106EUR+TCT-ND; Reel Stock: N/A; Last modified by: J.Jaramillo; Last modified date: 20240310; ComponentLink1Description: Digi-key; ComponentLink1URL: https://www.digikey.com/products/en?keywords=MAX6106EUR%2BTCT-ND
footprint SOT_23_3 (/20200728/M-C.CalderonC)
pins: 1 Vin, 2 Vout, 3 GND

## IC_VREF_3V_SOT23_3
designator U?, comment MAX6103EUR+T
IC VREF SERIES 4.096V SOT23-3; Manufacturer: Texas Instruments; Manufacturer Part Number: MAX6103EUR+T; Supplier 1: Digi-key; Supplier Part Number 1: MAX6103EUR+TCT-ND; Reel Stock: N/A; Last modified by: J.Jaramillo; Last modified date: 20240310; ComponentLink1Description: Digi-key; ComponentLink1URL: https://www.digikey.com/en/products/detail/maxim-integrated/MAX6103EUR-T/1518207?s=N4IgTCBcDaILIEEAaA2AjABgMwFECqASgNQAqAwiQLQByAIiALoC%2BQA
footprint SOT_23_3 (/20200728/M-C.CalderonC)
pins: 1 Vin, 2 Vout, 3 GND

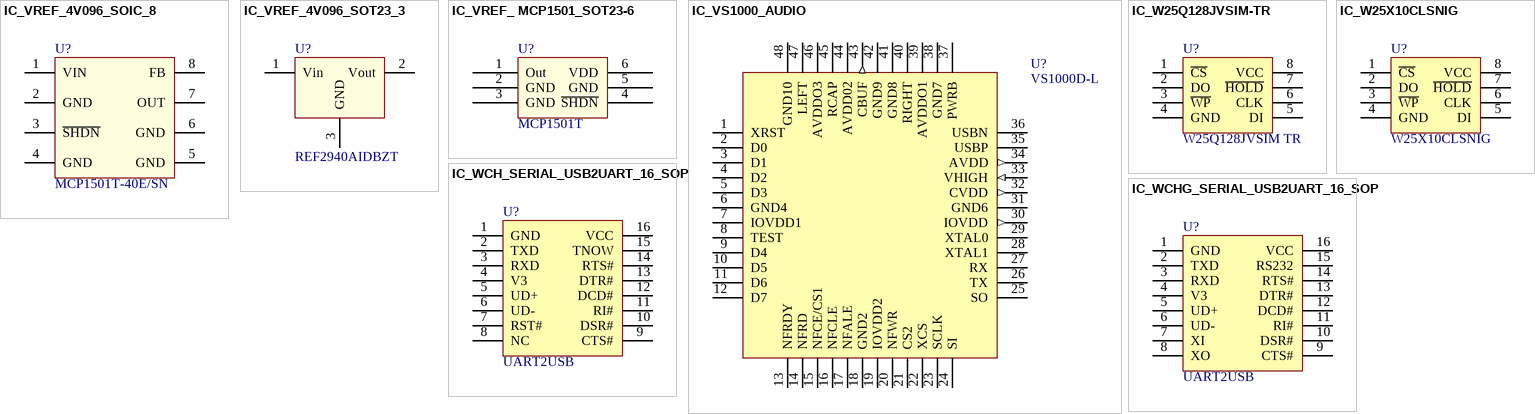
[diagram p9: symbols IC_VREF_4V096_SOIC_8 to IC_WCHG_SERIAL_USB2UART_16_SOP]

## IC_VREF_4V096_SOIC_8
designator U?, comment MCP1501T-40E/SN
IC VREF SERIES 0.1% 8SOIC; Manufacturer: Texas Instruments; Manufacturer Part Number: MCP1501T-40E/SN; Supplier 1: Digi-key; Supplier Part Number 1: MCP1501T-40E/SNCT-ND; Reel Stock: N/A; Last modified by: J.Jaramillo; Last modified date: 20240310; ComponentLink1Description: Digi-key; ComponentLink1URL: https://www.digikey.com/en/products/detail/microchip-technology/MCP1501T-40E-SN/5864126
footprint SOIC_8_3.9mm (/ 20190225 / C-A.Serna.A)
pins: 1 VIN, 2 GND, 3 ~{SHDN}, 4 GND, 5 GND, 6 GND, 7 OUT, 8 FB

## IC_VREF_4V096_SOT23_3
designator U?, comment REF2940AIDBZT
IC VREF SERIES 4.096V SOT23-3; Manufacturer: Texas Instruments; Manufacturer Part Number: REF2940AIDBZT; Supplier 1: Digi-key; Supplier Part Number 1: 296-13485-1-ND; Reel Stock: N/A; Last modified by: J.Jaramillo; Last modified date: 20240310; ComponentLink1Description: Digi-key; ComponentLink1URL: https://www.digikey.com/products/en?keywords=296-13485-1-ND
footprint SOT_23_3 (/20200728/M-C.CalderonC)
pins: 1 Vin, 2 Vout, 3 GND

## IC_VREF_ MCP1501_SOT23-6
designator U?, comment MCP1501T
IC VREF SERIES 0.1% SOT23-6; Manufacturer: Microchip Technology; Manufacturer Part Number: MCP1501T-20E/CHY; Supplier 1: Digi-Key; Supplier Part Number 1: MCP1501T-20E/CHYCT-ND; Reel Stock: N/A; Last modified by: J.Jaramillo; Last modified date: 20240310; ComponentLink1Description: Digi-Key; ComponentLink1URL: https://www.digikey.com/products/en?keywords=MCP1501T-20E%2FCHYCT-ND
footprint SOT_23_6 (/ 20190225 / C-A.Serna.A)
pins: 1 Out, 2 GND, 3 GND, 4 ~{SHDN}, 5 GND, 6 VDD

## IC_VS1000_AUDIO
designator U?, comment VS1000D-L
LQFP48 Video-Audio Interface ICs RoHS; Manufacturer: VLSI Solution; Manufacturer Part Number: VS1000D-L; Supplier 1: LCSC; Supplier Part Number 1: C486305; Reel Stock: N/A; Last modified by: J.Jaramillo; Last modified date: 20240310; ComponentLink1Description: LCSC; ComponentLink1URL: https://lcsc.com/product-detail/New-Arrivals_VLSI-Solution-VS1000D-L_C486305.html
footprint LQFP-48_7X7MM (/20210809/V-A.Patino)
pins: 1 XRST, 2 D0, 3 D1, 4 D2, 5 D3, 6 GND4, 7 IOVDD1, 8 TEST, 9 D4, 10 D5, 11 D6, 12 D7, 13 NFRDY, 14 NFRD, 15 NFCE/CS1, 16 NFCLE, 17 NFALE, 18 GND2, 19 IOVDD2, 20 NFWR, 21 CS2, 22 XCS, 23 SCLK, 24 SI, 25 SO, 26 TX, 27 RX, 28 XTAL1, 29 XTAL0, 30 IOVDD (out), 31 GND6, 32 CVDD (out), 33 VHIGH (in), 34 AVDD (out), 35 USBP, 36 USBN, 37 PWRB, 38 GND7, 39 AVDDO1, 40 RIGHT, 41 GND8, 42 GND9, 43 CBUF (out), 44 AVDD02, 45 RCAP, 46 AVDDO3, 47 LEFT, 48 GND10

## IC_W25Q128JVSIM-TR
designator U?, comment W25Q128JVSIM TR
IC FLASH 128MBIT SPI/QUAD 8SOIC; Manufacturer: Winbond Electronics; Manufacturer Part Number: W25Q128JVSIM TR; Supplier 1: Digi-Key; Supplier Part Number 1: W25Q128JVSIMCT-ND; Reel Stock: N/A; Last modified by: J.Jaramillo; Last modified date: 20240310; ComponentLink1Description: DIgi-Key; ComponentLink1URL: https://www.digikey.com/en/products/detail/winbond-electronics/W25Q128JVSIM-TR/6819722?s=N4IgTCBcDaIOpgKwEUCMYAcApAagZQEkBZAAgBUAlEAXQF8g
footprint SOIC_8_5.3mm (/ 20220928 / J-A.Sepulveda)
pins: 1 ~{CS} (power), 2 DO (power), 3 ~{WP} (power), 4 GND (power), 5 DI (power), 6 CLK (power), 7 ~{HOLD} (power), 8 VCC (power)

## IC_W25X10CLSNIG
designator U?, comment W25X10CLSNIG
IC FLASH 1MBIT SPI 104MHZ 8SOIC; Manufacturer: Winbond Electronics; Manufacturer Part Number: W25X10CLSNIG; Supplier 1: Digi-Key; Supplier Part Number 1: W25X10CLSNIG-ND; Reel Stock: N/A; Last modified by: J.Jaramillo; Last modified date: 20240310; ComponentLink1Description: Digikey; ComponentLink1URL: https://www.digikey.com/en/products/detail/winbond-electronics/W25X10CLSNIG/3727656?s=N4IgTCBcDaICwFY4FoDqYEA0CMAGAwgDIDKAcgJIDiIAugL5A
footprint SOIC_8_3.9mm (/ 20190225 / C-A.Serna.A)
pins: 1 ~{CS} (power), 2 DO (power), 3 ~{WP} (power), 4 GND (power), 5 DI (power), 6 CLK (power), 7 ~{HOLD} (power), 8 VCC (power)

## IC_WCH_SERIAL_USB2UART_16_SOP
designator U?, comment UART2USB
Transceiver USB 2.0 2Mbps SOP-16_150mil USB ICs RoHS; Manufacturer: WCH(Jiangsu Qin Heng); Manufacturer Part Number: CH340B; Supplier 1: LCSC; Supplier Part Number 1: C81010; Reel Stock: N/A; Last modified by: J.Jaramillo; Last modified date: 20240310; ComponentLink1Description: LCSC; ComponentLink1URL: https://lcsc.com/product-detail/USB-ICs_WCH-Jiangsu-Qin-Heng-CH340B_C81010.html
footprint SOP-16_3.9X10MM (/ 20210809 / C-D Viveros)
pins: 1 GND, 2 TXD, 3 RXD, 4 V3, 5 UD+, 6 UD-, 7 RST#, 8 NC, 9 CTS#, 10 DSR#, 11 RI#, 12 DCD#, 13 DTR#, 14 RTS#, 15 TNOW, 16 VCC

## IC_WCHG_SERIAL_USB2UART_16_SOP
designator U?, comment UART2USB
Transceiver USB 2.0 2Mbps SOP-16_150mil USB ICs RoHS; Manufacturer: WCH(Jiangsu Qin Heng); Manufacturer Part Number: CH340G; Supplier 1: LCSC; Supplier Part Number 1: C14267; Reel Stock: N/A; Last modified by: J.Jaramillo; Last modified date: 20240310; ComponentLink1Description: LCSC; ComponentLink1URL: https://lcsc.com/product-detail/USB-ICs_WCH-Jiangsu-Qin-Heng-CH340G_C14267.html
footprint SOP-16_3.9X10MM (/ 20210809 / C-D Viveros)
pins: 1 GND, 2 TXD, 3 RXD, 4 V3, 5 UD+, 6 UD-, 7 XI, 8 XO, 9 CTS#, 10 DSR#, 11 RI#, 12 DCD#, 13 DTR#, 14 RTS#, 15 RS232, 16 VCC